# EAGLE library part 8282-A (library micro-siemens)
MICROPROCESSOR/PERIPHERAL DEVICE
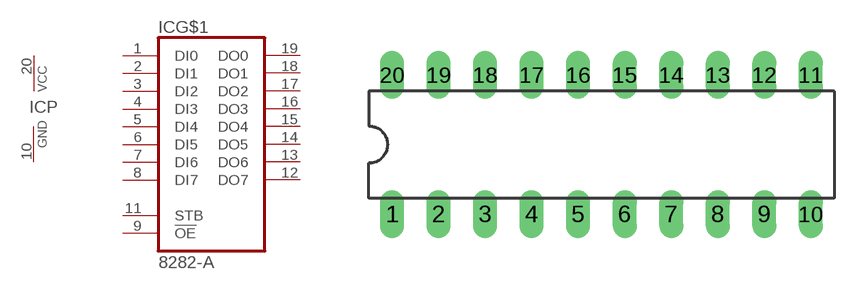
[diagram p4: symbol with the pads of DIL20; footprint DIL20]

Designator prefix IC; gates G$1=8282-A P=VCCGND

## 8282-A (OC_FARNELL: unknown; OC_NEWARK: unknown)  [DIL20]
1  G$1:DI0  in
2  G$1:DI1  in
3  G$1:DI2  in
4  G$1:DI3  in
5  G$1:DI4  in
6  G$1:DI5  in
7  G$1:DI6  in
8  G$1:DI7  in
9  G$1:!OE  in
10  P:GND  pwr
11  G$1:STB  in
12  G$1:DO7  out
13  G$1:DO6  out
14  G$1:DO5  out
15  G$1:DO4  out
16  G$1:DO3  out
17  G$1:DO2  out
18  G$1:DO1  out
19  G$1:DO0  out
20  P:VCC  pwr

## Footprint DIL20 (pad centres in mm)
Dual In Line Package
drill 0.813 long: 1 -11.43,-3.81; 2 -8.89,-3.81; 3 -6.35,-3.81; 4 -3.81,-3.81; 5 -1.27,-3.81; 6 1.27,-3.81; 7 3.81,-3.81; 8 6.35,-3.81; 9 8.89,-3.81; 10 11.43,-3.81; 11 11.43,3.81; 12 8.89,3.81; 13 6.35,3.81; 14 3.81,3.81; 15 1.27,3.81; 16 -1.27,3.81; 17 -3.81,3.81; 18 -6.35,3.81; 19 -8.89,3.81; 20 -11.43,3.81